# Altium integrated library Microchip Power Management Line Regulator.IntLib: 1174 symbols (part 15 of 31)
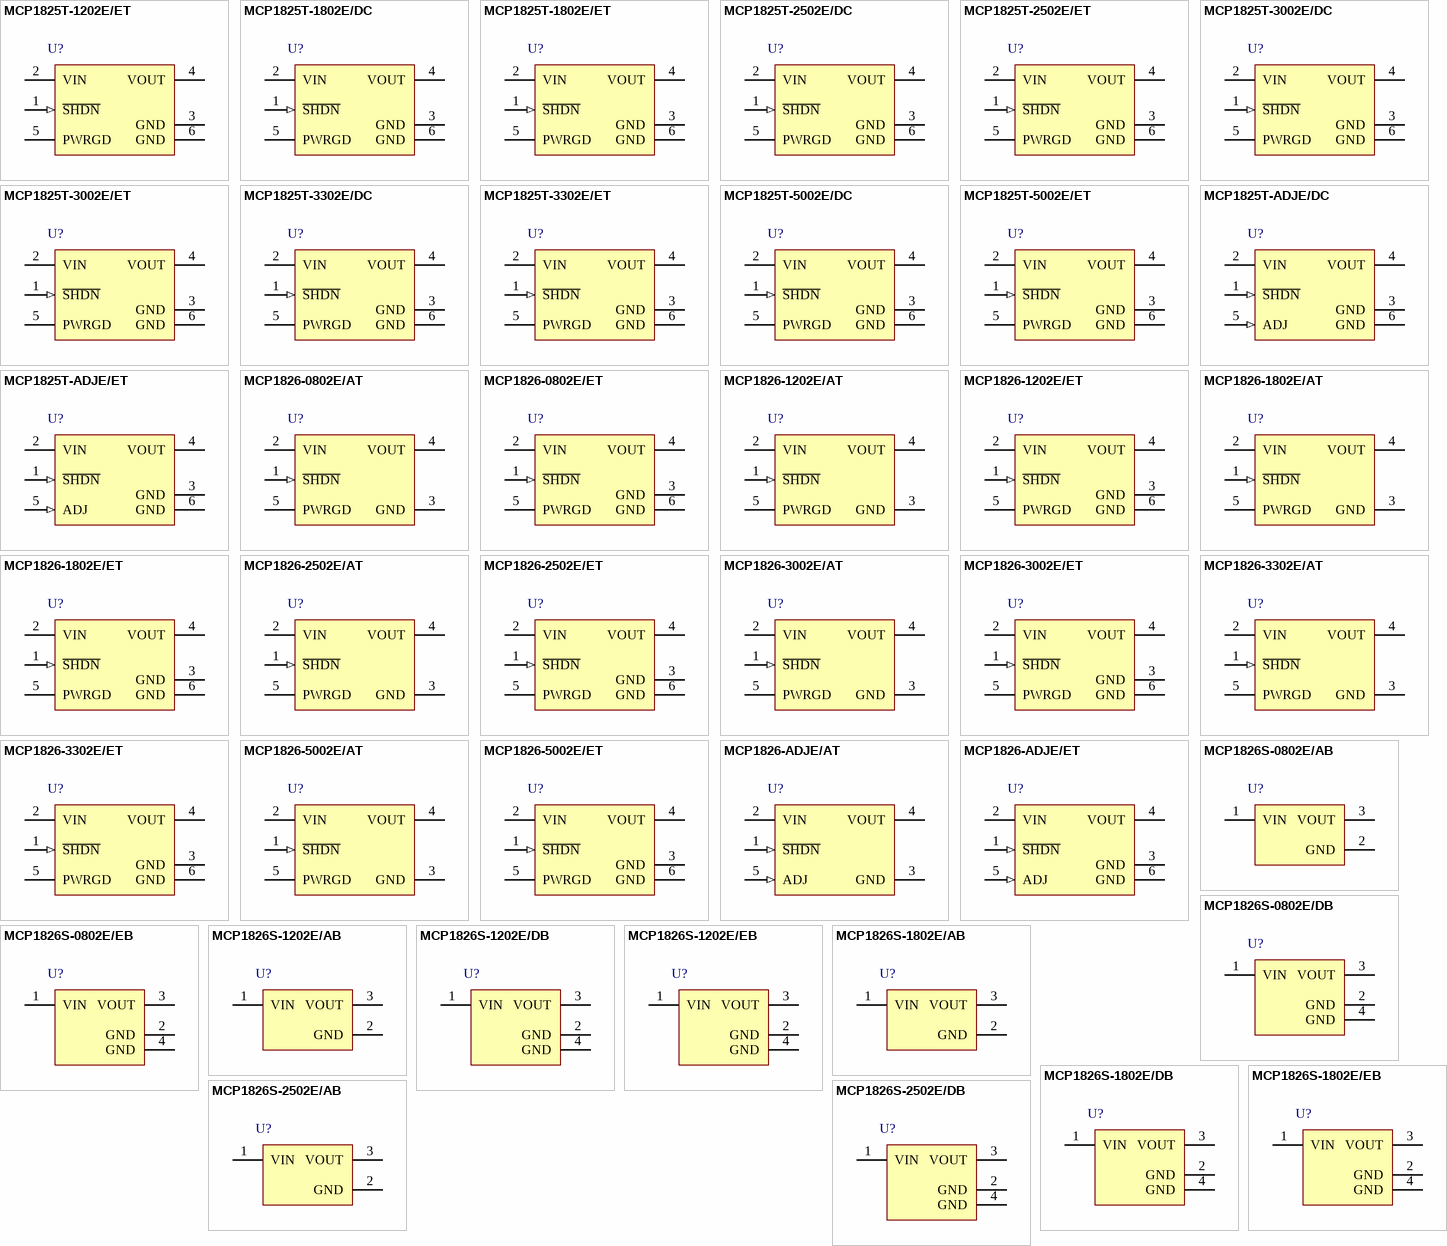
[diagram p44: symbols MCP1825T-1202E/ET to MCP1826S-2502E/DB]

## MCP1826-0802E/ET
designator U?
1000 mA, Low Voltage, Low Quiescent Current LDO Regulator, 5-Pin DDPAK, Extended Temperature; Manufacturer: Microchip; PartNumber: MCP1826-0802E/ET; DatasheetVersion: revA, Aug-2007; PackageVersion: revBB, Aug-2009; PackageReference: DDPAK-ET5; PackageDescription: 5-Lead Plastic (ET) [DDPAK]; Supplier 1: Digi-Key; Supplier Part Number 1: MCP1826-0802E/ET-ND; Supplier 2: Mouser; Supplier Part Number 2: 579-MCP1826-0802E/ET; Mounting Technology: Surface Mount; ComponentLink1Description: Manufacturer URL; ComponentLink1URL: http://www.microchip.com/; ComponentLink2Description: Datasheet; ComponentLink2URL: http://ww1.microchip.com/downloads/en/DeviceDoc/22057a.pdf; ComponentLink3Description: Package Specification; ComponentLink3URL: http://www.microchip.com/stellent/groups/techpub_sg/documents/packagingspec/en012702.pdf
footprint DDPAK-ET5_N (D2-PAK, 6-Leads, Body 9x10.2mm, Pitch 1.7mm, Lead Span 14.9mm, IPC Medium Density)
footprint DDPAK-ET5_L (D2-PAK, 6-Leads, Body 9x10.2mm, Pitch 1.7mm, Lead Span 14.9mm, IPC High Density)
footprint DDPAK-ET5_M (D2-PAK, 6-Leads, Body 9x10.2mm, Pitch 1.7mm, Lead Span 14.9mm, IPC Low Density)
pins: 1 ~{SHDN} (in), 2 VIN (power), 3 GND (power), 4 VOUT (power), 5 PWRGD (power), 6 GND (power)

## MCP1826-1202E/AT
designator U?
1000 mA, Low Voltage, Low Quiescent Current LDO Regulator, 5-Pin TO-220, Extended Temperature; Manufacturer: Microchip; PartNumber: MCP1826-1202E/AT; DatasheetVersion: revA, Aug-2007; PackageVersion: revBB, Aug-2009; PackageReference: TO-220-AT5; PackageDescription: 5-Lead Plastic Transistor Outline (AT) [TO-220]; Supplier 1: Digi-Key; Supplier Part Number 1: MCP1826-1202E/AT-ND; Supplier 2: Farnell; Supplier Part Number 2: 1851992; Supplier 3: Newark; Supplier Part Number 3: 27M0003; Supplier 4: Mouser; Supplier Part Number 4: 579-MCP1826-1202E/AT; Mounting Technology: Through Hole; ComponentLink1Description: Manufacturer URL; ComponentLink1URL: http://www.microchip.com/; ComponentLink2Description: Datasheet; ComponentLink2URL: http://ww1.microchip.com/downloads/en/DeviceDoc/22057a.pdf; ComponentLink3Description: Package Specification; ComponentLink3URL: http://www.microchip.com/stellent/groups/techpub_sg/documents/packagingspec/en012702.pdf
footprint TO-220-AT5 (TO, Thru-Hole, Vertical, Heatsink Mounted; 5 In-Line Leads; Pitch 1.70 mm)
pins: 1 ~{SHDN} (in), 2 VIN (power), 3 GND (power), 4 VOUT (power), 5 PWRGD (power)

## MCP1826-1202E/ET
designator U?
1000 mA, Low Voltage, Low Quiescent Current LDO Regulator, 5-Pin DDPAK, Extended Temperature; Manufacturer: Microchip; PartNumber: MCP1826-1202E/ET; DatasheetVersion: revA, Aug-2007; PackageVersion: revBB, Aug-2009; PackageReference: DDPAK-ET5; PackageDescription: 5-Lead Plastic (ET) [DDPAK]; Supplier 1: Digi-Key; Supplier Part Number 1: MCP1826-1202E/ET-ND; Supplier 2: Mouser; Supplier Part Number 2: 579-MCP1826-1202E/ET; Mounting Technology: Surface Mount; ComponentLink1Description: Manufacturer URL; ComponentLink1URL: http://www.microchip.com/; ComponentLink2Description: Datasheet; ComponentLink2URL: http://ww1.microchip.com/downloads/en/DeviceDoc/22057a.pdf; ComponentLink3Description: Package Specification; ComponentLink3URL: http://www.microchip.com/stellent/groups/techpub_sg/documents/packagingspec/en012702.pdf
footprint DDPAK-ET5_N (D2-PAK, 6-Leads, Body 9x10.2mm, Pitch 1.7mm, Lead Span 14.9mm, IPC Medium Density)
footprint DDPAK-ET5_L (D2-PAK, 6-Leads, Body 9x10.2mm, Pitch 1.7mm, Lead Span 14.9mm, IPC High Density)
footprint DDPAK-ET5_M (D2-PAK, 6-Leads, Body 9x10.2mm, Pitch 1.7mm, Lead Span 14.9mm, IPC Low Density)
pins: 1 ~{SHDN} (in), 2 VIN (power), 3 GND (power), 4 VOUT (power), 5 PWRGD (power), 6 GND (power)

## MCP1826-1802E/AT
designator U?
1000 mA, Low Voltage, Low Quiescent Current LDO Regulator, 5-Pin TO-220, Extended Temperature; Manufacturer: Microchip; PartNumber: MCP1826-1802E/AT; DatasheetVersion: revA, Aug-2007; PackageVersion: revBB, Aug-2009; PackageReference: TO-220-AT5; PackageDescription: 5-Lead Plastic Transistor Outline (AT) [TO-220]; Supplier 1: Digi-Key; Supplier Part Number 1: MCP1826-1802E/AT-ND; Supplier 2: Farnell; Supplier Part Number 2: 1578412; Supplier 3: Mouser; Supplier Part Number 3: 579-MCP1826-1802E/AT; Mounting Technology: Through Hole; ComponentLink1Description: Manufacturer URL; ComponentLink1URL: http://www.microchip.com/; ComponentLink2Description: Datasheet; ComponentLink2URL: http://ww1.microchip.com/downloads/en/DeviceDoc/22057a.pdf; ComponentLink3Description: Package Specification; ComponentLink3URL: http://www.microchip.com/stellent/groups/techpub_sg/documents/packagingspec/en012702.pdf
footprint TO-220-AT5 (TO, Thru-Hole, Vertical, Heatsink Mounted; 5 In-Line Leads; Pitch 1.70 mm)
pins: 1 ~{SHDN} (in), 2 VIN (power), 3 GND (power), 4 VOUT (power), 5 PWRGD (power)

## MCP1826-1802E/ET
designator U?
1000 mA, Low Voltage, Low Quiescent Current LDO Regulator, 5-Pin DDPAK, Extended Temperature; Manufacturer: Microchip; PartNumber: MCP1826-1802E/ET; DatasheetVersion: revA, Aug-2007; PackageVersion: revBB, Aug-2009; PackageReference: DDPAK-ET5; PackageDescription: 5-Lead Plastic (ET) [DDPAK]; Supplier 1: Digi-Key; Supplier Part Number 1: MCP1826-1802E/ET-ND; Supplier 2: Newark; Supplier Part Number 2: 27M0008; Supplier 3: Mouser; Supplier Part Number 3: 579-MCP1826-1802E/ET; Mounting Technology: Surface Mount; ComponentLink1Description: Manufacturer URL; ComponentLink1URL: http://www.microchip.com/; ComponentLink2Description: Datasheet; ComponentLink2URL: http://ww1.microchip.com/downloads/en/DeviceDoc/22057a.pdf; ComponentLink3Description: Package Specification; ComponentLink3URL: http://www.microchip.com/stellent/groups/techpub_sg/documents/packagingspec/en012702.pdf
footprint DDPAK-ET5_N (D2-PAK, 6-Leads, Body 9x10.2mm, Pitch 1.7mm, Lead Span 14.9mm, IPC Medium Density)
footprint DDPAK-ET5_L (D2-PAK, 6-Leads, Body 9x10.2mm, Pitch 1.7mm, Lead Span 14.9mm, IPC High Density)
footprint DDPAK-ET5_M (D2-PAK, 6-Leads, Body 9x10.2mm, Pitch 1.7mm, Lead Span 14.9mm, IPC Low Density)
pins: 1 ~{SHDN} (in), 2 VIN (power), 3 GND (power), 4 VOUT (power), 5 PWRGD (power), 6 GND (power)

## MCP1826-2502E/AT
designator U?
1000 mA, Low Voltage, Low Quiescent Current LDO Regulator, 5-Pin TO-220, Extended Temperature; Manufacturer: Microchip; PartNumber: MCP1826-2502E/AT; DatasheetVersion: revA, Aug-2007; PackageVersion: revBB, Aug-2009; PackageReference: TO-220-AT5; PackageDescription: 5-Lead Plastic Transistor Outline (AT) [TO-220]; Supplier 1: Digi-Key; Supplier Part Number 1: MCP1826-2502E/AT-ND; Supplier 2: Farnell; Supplier Part Number 2: 1851993; Supplier 3: Newark; Supplier Part Number 3: 27M0009; Supplier 4: Mouser; Supplier Part Number 4: 579-MCP1826-2502E/AT; Mounting Technology: Through Hole; ComponentLink1Description: Manufacturer URL; ComponentLink1URL: http://www.microchip.com/; ComponentLink2Description: Datasheet; ComponentLink2URL: http://ww1.microchip.com/downloads/en/DeviceDoc/22057a.pdf; ComponentLink3Description: Package Specification; ComponentLink3URL: http://www.microchip.com/stellent/groups/techpub_sg/documents/packagingspec/en012702.pdf
footprint TO-220-AT5 (TO, Thru-Hole, Vertical, Heatsink Mounted; 5 In-Line Leads; Pitch 1.70 mm)
pins: 1 ~{SHDN} (in), 2 VIN (power), 3 GND (power), 4 VOUT (power), 5 PWRGD (power)

## MCP1826-2502E/ET
designator U?
1000 mA, Low Voltage, Low Quiescent Current LDO Regulator, 5-Pin DDPAK, Extended Temperature; Manufacturer: Microchip; PartNumber: MCP1826-2502E/ET; DatasheetVersion: revA, Aug-2007; PackageVersion: revBB, Aug-2009; PackageReference: DDPAK-ET5; PackageDescription: 5-Lead Plastic (ET) [DDPAK]; Supplier 1: Digi-Key; Supplier Part Number 1: MCP1826-2502E/ET-ND; Supplier 2: Mouser; Supplier Part Number 2: 579-MCP1826-2502E/ET; Mounting Technology: Surface Mount; ComponentLink1Description: Manufacturer URL; ComponentLink1URL: http://www.microchip.com/; ComponentLink2Description: Datasheet; ComponentLink2URL: http://ww1.microchip.com/downloads/en/DeviceDoc/22057a.pdf; ComponentLink3Description: Package Specification; ComponentLink3URL: http://www.microchip.com/stellent/groups/techpub_sg/documents/packagingspec/en012702.pdf
footprint DDPAK-ET5_N (D2-PAK, 6-Leads, Body 9x10.2mm, Pitch 1.7mm, Lead Span 14.9mm, IPC Medium Density)
footprint DDPAK-ET5_L (D2-PAK, 6-Leads, Body 9x10.2mm, Pitch 1.7mm, Lead Span 14.9mm, IPC High Density)
footprint DDPAK-ET5_M (D2-PAK, 6-Leads, Body 9x10.2mm, Pitch 1.7mm, Lead Span 14.9mm, IPC Low Density)
pins: 1 ~{SHDN} (in), 2 VIN (power), 3 GND (power), 4 VOUT (power), 5 PWRGD (power), 6 GND (power)

## MCP1826-3002E/AT
designator U?
1000 mA, Low Voltage, Low Quiescent Current LDO Regulator, 5-Pin TO-220, Extended Temperature; Manufacturer: Microchip; PartNumber: MCP1826-3002E/AT; DatasheetVersion: revA, Aug-2007; PackageVersion: revBB, Aug-2009; PackageReference: TO-220-AT5; PackageDescription: 5-Lead Plastic Transistor Outline (AT) [TO-220]; Supplier 1: Digi-Key; Supplier Part Number 1: MCP1826-3002E/AT-ND; Supplier 2: Mouser; Supplier Part Number 2: 579-MCP1826-3002E/AT; Mounting Technology: Through Hole; ComponentLink1Description: Manufacturer URL; ComponentLink1URL: http://www.microchip.com/; ComponentLink2Description: Datasheet; ComponentLink2URL: http://ww1.microchip.com/downloads/en/DeviceDoc/22057a.pdf; ComponentLink3Description: Package Specification; ComponentLink3URL: http://www.microchip.com/stellent/groups/techpub_sg/documents/packagingspec/en012702.pdf
footprint TO-220-AT5 (TO, Thru-Hole, Vertical, Heatsink Mounted; 5 In-Line Leads; Pitch 1.70 mm)
pins: 1 ~{SHDN} (in), 2 VIN (power), 3 GND (power), 4 VOUT (power), 5 PWRGD (power)

## MCP1826-3002E/ET
designator U?
1000 mA, Low Voltage, Low Quiescent Current LDO Regulator, 5-Pin DDPAK, Extended Temperature; Manufacturer: Microchip; PartNumber: MCP1826-3002E/ET; DatasheetVersion: revA, Aug-2007; PackageVersion: revBB, Aug-2009; PackageReference: DDPAK-ET5; PackageDescription: 5-Lead Plastic (ET) [DDPAK]; Supplier 1: Digi-Key; Supplier Part Number 1: MCP1826-3002E/ET-ND; Supplier 2: Mouser; Supplier Part Number 2: 579-MCP1826-3002E/ET; Mounting Technology: Surface Mount; ComponentLink1Description: Manufacturer URL; ComponentLink1URL: http://www.microchip.com/; ComponentLink2Description: Datasheet; ComponentLink2URL: http://ww1.microchip.com/downloads/en/DeviceDoc/22057a.pdf; ComponentLink3Description: Package Specification; ComponentLink3URL: http://www.microchip.com/stellent/groups/techpub_sg/documents/packagingspec/en012702.pdf
footprint DDPAK-ET5_N (D2-PAK, 6-Leads, Body 9x10.2mm, Pitch 1.7mm, Lead Span 14.9mm, IPC Medium Density)
footprint DDPAK-ET5_L (D2-PAK, 6-Leads, Body 9x10.2mm, Pitch 1.7mm, Lead Span 14.9mm, IPC High Density)
footprint DDPAK-ET5_M (D2-PAK, 6-Leads, Body 9x10.2mm, Pitch 1.7mm, Lead Span 14.9mm, IPC Low Density)
pins: 1 ~{SHDN} (in), 2 VIN (power), 3 GND (power), 4 VOUT (power), 5 PWRGD (power), 6 GND (power)

## MCP1826-3302E/AT
designator U?
1000 mA, Low Voltage, Low Quiescent Current LDO Regulator, 5-Pin TO-220, Extended Temperature; Manufacturer: Microchip; PartNumber: MCP1826-3302E/AT; DatasheetVersion: revA, Aug-2007; PackageVersion: revBB, Aug-2009; PackageReference: TO-220-AT5; PackageDescription: 5-Lead Plastic Transistor Outline (AT) [TO-220]; Supplier 1: Digi-Key; Supplier Part Number 1: MCP1826-3302E/AT-ND; Supplier 2: Farnell; Supplier Part Number 2: 1578413; Supplier 3: Newark; Supplier Part Number 3: 08N6486; Supplier 4: Mouser; Supplier Part Number 4: 579-MCP1826-3302E/AT; Mounting Technology: Through Hole; ComponentLink1Description: Manufacturer URL; ComponentLink1URL: http://www.microchip.com/; ComponentLink2Description: Datasheet; ComponentLink2URL: http://ww1.microchip.com/downloads/en/DeviceDoc/22057a.pdf; ComponentLink3Description: Package Specification; ComponentLink3URL: http://www.microchip.com/stellent/groups/techpub_sg/documents/packagingspec/en012702.pdf
footprint TO-220-AT5 (TO, Thru-Hole, Vertical, Heatsink Mounted; 5 In-Line Leads; Pitch 1.70 mm)
pins: 1 ~{SHDN} (in), 2 VIN (power), 3 GND (power), 4 VOUT (power), 5 PWRGD (power)

## MCP1826-3302E/ET
designator U?
1000 mA, Low Voltage, Low Quiescent Current LDO Regulator, 5-Pin DDPAK, Extended Temperature; Manufacturer: Microchip; PartNumber: MCP1826-3302E/ET; DatasheetVersion: revA, Aug-2007; PackageVersion: revBB, Aug-2009; PackageReference: DDPAK-ET5; PackageDescription: 5-Lead Plastic (ET) [DDPAK]; Supplier 1: Digi-Key; Supplier Part Number 1: MCP1826-3302E/ET-ND; Supplier 2: Newark; Supplier Part Number 2: 27M0017; Supplier 3: Mouser; Supplier Part Number 3: 579-MCP1826-3302E/ET; Mounting Technology: Surface Mount; ComponentLink1Description: Manufacturer URL; ComponentLink1URL: http://www.microchip.com/; ComponentLink2Description: Datasheet; ComponentLink2URL: http://ww1.microchip.com/downloads/en/DeviceDoc/22057a.pdf; ComponentLink3Description: Package Specification; ComponentLink3URL: http://www.microchip.com/stellent/groups/techpub_sg/documents/packagingspec/en012702.pdf
footprint DDPAK-ET5_N (D2-PAK, 6-Leads, Body 9x10.2mm, Pitch 1.7mm, Lead Span 14.9mm, IPC Medium Density)
footprint DDPAK-ET5_L (D2-PAK, 6-Leads, Body 9x10.2mm, Pitch 1.7mm, Lead Span 14.9mm, IPC High Density)
footprint DDPAK-ET5_M (D2-PAK, 6-Leads, Body 9x10.2mm, Pitch 1.7mm, Lead Span 14.9mm, IPC Low Density)
pins: 1 ~{SHDN} (in), 2 VIN (power), 3 GND (power), 4 VOUT (power), 5 PWRGD (power), 6 GND (power)

## MCP1826-5002E/AT
designator U?
1000 mA, Low Voltage, Low Quiescent Current LDO Regulator, 5-Pin TO-220, Extended Temperature; Manufacturer: Microchip; PartNumber: MCP1826-5002E/AT; DatasheetVersion: revA, Aug-2007; PackageVersion: revBB, Aug-2009; PackageReference: TO-220-AT5; PackageDescription: 5-Lead Plastic Transistor Outline (AT) [TO-220]; Supplier 1: Digi-Key; Supplier Part Number 1: MCP1826-5002E/AT-ND; Supplier 2: Farnell; Supplier Part Number 2: 1578414; Supplier 3: Mouser; Supplier Part Number 3: 579-MCP1826-5002E/AT; Mounting Technology: Through Hole; ComponentLink1Description: Manufacturer URL; ComponentLink1URL: http://www.microchip.com/; ComponentLink2Description: Datasheet; ComponentLink2URL: http://ww1.microchip.com/downloads/en/DeviceDoc/22057a.pdf; ComponentLink3Description: Package Specification; ComponentLink3URL: http://www.microchip.com/stellent/groups/techpub_sg/documents/packagingspec/en012702.pdf
footprint TO-220-AT5 (TO, Thru-Hole, Vertical, Heatsink Mounted; 5 In-Line Leads; Pitch 1.70 mm)
pins: 1 ~{SHDN} (in), 2 VIN (power), 3 GND (power), 4 VOUT (power), 5 PWRGD (power)

## MCP1826-5002E/ET
designator U?
1000 mA, Low Voltage, Low Quiescent Current LDO Regulator, 5-Pin DDPAK, Extended Temperature; Manufacturer: Microchip; PartNumber: MCP1826-5002E/ET; DatasheetVersion: revA, Aug-2007; PackageVersion: revBB, Aug-2009; PackageReference: DDPAK-ET5; PackageDescription: 5-Lead Plastic (ET) [DDPAK]; Supplier 1: Digi-Key; Supplier Part Number 1: MCP1826-5002E/ET-ND; Supplier 2: Mouser; Supplier Part Number 2: 579-MCP1826-5002E/ET; Mounting Technology: Surface Mount; ComponentLink1Description: Manufacturer URL; ComponentLink1URL: http://www.microchip.com/; ComponentLink2Description: Datasheet; ComponentLink2URL: http://ww1.microchip.com/downloads/en/DeviceDoc/22057a.pdf; ComponentLink3Description: Package Specification; ComponentLink3URL: http://www.microchip.com/stellent/groups/techpub_sg/documents/packagingspec/en012702.pdf
footprint DDPAK-ET5_N (D2-PAK, 6-Leads, Body 9x10.2mm, Pitch 1.7mm, Lead Span 14.9mm, IPC Medium Density)
footprint DDPAK-ET5_L (D2-PAK, 6-Leads, Body 9x10.2mm, Pitch 1.7mm, Lead Span 14.9mm, IPC High Density)
footprint DDPAK-ET5_M (D2-PAK, 6-Leads, Body 9x10.2mm, Pitch 1.7mm, Lead Span 14.9mm, IPC Low Density)
pins: 1 ~{SHDN} (in), 2 VIN (power), 3 GND (power), 4 VOUT (power), 5 PWRGD (power), 6 GND (power)

## MCP1826-ADJE/AT
designator U?
1000 mA, Low Voltage, Low Quiescent Current LDO Regulator, 5-Pin TO-220, Extended Temperature; Manufacturer: Microchip; PartNumber: MCP1826-ADJE/AT; DatasheetVersion: revA, Aug-2007; PackageVersion: revBB, Aug-2009; PackageReference: TO-220-AT5; PackageDescription: 5-Lead Plastic Transistor Outline (AT) [TO-220]; Supplier 1: Digi-Key; Supplier Part Number 1: MCP1826-ADJE/AT-ND; Supplier 2: Farnell; Supplier Part Number 2: 1578415; Supplier 3: Mouser; Supplier Part Number 3: 579-MCP1826-ADJE/AT; Mounting Technology: Through Hole; ComponentLink1Description: Manufacturer URL; ComponentLink1URL: http://www.microchip.com/; ComponentLink2Description: Datasheet; ComponentLink2URL: http://ww1.microchip.com/downloads/en/DeviceDoc/22057a.pdf; ComponentLink3Description: Package Specification; ComponentLink3URL: http://www.microchip.com/stellent/groups/techpub_sg/documents/packagingspec/en012702.pdf
footprint TO-220-AT5 (TO, Thru-Hole, Vertical, Heatsink Mounted; 5 In-Line Leads; Pitch 1.70 mm)
pins: 1 ~{SHDN} (in), 2 VIN (power), 3 GND (power), 4 VOUT (power), 5 ADJ (in)

## MCP1826-ADJE/ET
designator U?
1000 mA, Low Voltage, Low Quiescent Current LDO Regulator, 5-Pin DDPAK, Extended Temperature; Manufacturer: Microchip; PartNumber: MCP1826-ADJE/ET; DatasheetVersion: revA, Aug-2007; PackageVersion: revBB, Aug-2009; PackageReference: DDPAK-ET5; PackageDescription: 5-Lead Plastic (ET) [DDPAK]; Supplier 1: Digi-Key; Supplier Part Number 1: MCP1826-ADJE/ET-ND; Supplier 2: Newark; Supplier Part Number 2: 26M9998; Supplier 3: Mouser; Supplier Part Number 3: 579-MCP1826-ADJE/ET; Mounting Technology: Surface Mount; ComponentLink1Description: Manufacturer URL; ComponentLink1URL: http://www.microchip.com/; ComponentLink2Description: Datasheet; ComponentLink2URL: http://ww1.microchip.com/downloads/en/DeviceDoc/22057a.pdf; ComponentLink3Description: Package Specification; ComponentLink3URL: http://www.microchip.com/stellent/groups/techpub_sg/documents/packagingspec/en012702.pdf
footprint DDPAK-ET5_N (D2-PAK, 6-Leads, Body 9x10.2mm, Pitch 1.7mm, Lead Span 14.9mm, IPC Medium Density)
footprint DDPAK-ET5_L (D2-PAK, 6-Leads, Body 9x10.2mm, Pitch 1.7mm, Lead Span 14.9mm, IPC High Density)
footprint DDPAK-ET5_M (D2-PAK, 6-Leads, Body 9x10.2mm, Pitch 1.7mm, Lead Span 14.9mm, IPC Low Density)
pins: 1 ~{SHDN} (in), 2 VIN (power), 3 GND (power), 4 VOUT (power), 5 ADJ (in), 6 GND (power)

## MCP1826S-0802E/AB
designator U?
1000 mA, Low Voltage, Low Quiescent Current LDO Regulator, 3-Pin TO-220, Extended Temperature; Manufacturer: Microchip; PartNumber: MCP1826S-0802E/AB; DatasheetVersion: revA, Aug-2007; PackageVersion: revBB, Aug-2009; PackageReference: TO-220-AB3; PackageDescription: 3-Lead Plastic Transistor Outline (AB) [TO-220]; Supplier 1: Digi-Key; Supplier Part Number 1: MCP1826S-0802E/AB-ND; Supplier 2: Mouser; Supplier Part Number 2: 579-MCP1826S-0802EAB; Mounting Technology: Through Hole; ComponentLink1Description: Manufacturer URL; ComponentLink1URL: http://www.microchip.com/; ComponentLink2Description: Datasheet; ComponentLink2URL: http://ww1.microchip.com/downloads/en/DeviceDoc/22057a.pdf; ComponentLink3Description: Package Specification; ComponentLink3URL: http://www.microchip.com/stellent/groups/techpub_sg/documents/packagingspec/en012702.pdf
footprint TO-220-AB3 (TO, Thru-Hole, Vertical, Heatsink Mounted; 3 In-Line Leads; Pitch 2.54 mm)
pins: 1 VIN (power), 2 GND (power), 3 VOUT (power)

## MCP1826S-0802E/DB
designator U?
1000 mA, Low Voltage, Low Quiescent Current LDO Regulator, 3-Pin SOT-223, Extended Temperature; Manufacturer: Microchip; PartNumber: MCP1826S-0802E/DB; DatasheetVersion: revA, Aug-2007; PackageVersion: revBB, Aug-2009; PackageReference: SOT-223-DB3; PackageDescription: 3-Lead Plastic Small Outline Transistor (DB) [SOT-223]; Supplier 1: Digi-Key; Supplier Part Number 1: MCP1826S-0802E/DB-ND; Supplier 2: Mouser; Supplier Part Number 2: 579-MCP1826S-0802EDB; Mounting Technology: Surface Mount; ComponentLink1Description: Manufacturer URL; ComponentLink1URL: http://www.microchip.com/; ComponentLink2Description: Datasheet; ComponentLink2URL: http://ww1.microchip.com/downloads/en/DeviceDoc/22057a.pdf; ComponentLink3Description: Package Specification; ComponentLink3URL: http://www.microchip.com/stellent/groups/techpub_sg/documents/packagingspec/en012702.pdf
footprint SOT-223-DB3_N (SOT223, 4-Leads, Body 6.5x3.5mm, Pitch 2.3mm, Lead Span 7mm, IPC Medium Density)
footprint SOT-223-DB3_L (SOT223, 4-Leads, Body 6.5x3.5mm, Pitch 2.3mm, Lead Span 7mm, IPC High Density)
footprint SOT-223-DB3_M (SOT223, 4-Leads, Body 6.5x3.5mm, Pitch 2.3mm, Lead Span 7mm, IPC Low Density)
pins: 1 VIN (power), 2 GND (power), 3 VOUT (power), 4 GND (power)

## MCP1826S-0802E/EB
designator U?
1000 mA, Low Voltage, Low Quiescent Current LDO Regulator, 3-Pin DDPAK, Extended Temperature; Manufacturer: Microchip; PartNumber: MCP1826S-0802E/EB; DatasheetVersion: revA, Aug-2007; PackageVersion: revBB, Aug-2009; PackageReference: DDPAK-EB3; PackageDescription: 3-Lead Plastic (EB) [DDPAK]; Supplier 1: Digi-Key; Supplier Part Number 1: MCP1826S-0802E/EB-ND; Supplier 2: Mouser; Supplier Part Number 2: 579-MCP1826S-0802EEB; Mounting Technology: Surface Mount; ComponentLink1Description: Manufacturer URL; ComponentLink1URL: http://www.microchip.com/; ComponentLink2Description: Datasheet; ComponentLink2URL: http://ww1.microchip.com/downloads/en/DeviceDoc/22057a.pdf; ComponentLink3Description: Package Specification; ComponentLink3URL: http://www.microchip.com/stellent/groups/techpub_sg/documents/packagingspec/en012702.pdf
footprint DDPAK-EB3_N (D2-PAK, 4-Leads, Body 9x10.2mm, Pitch 2.54mm, Lead Span 14.9mm, IPC Medium Density)
footprint DDPAK-EB3_L (D2-PAK, 4-Leads, Body 9x10.2mm, Pitch 2.54mm, Lead Span 14.9mm, IPC High Density)
footprint DDPAK-EB3_M (D2-PAK, 4-Leads, Body 9x10.2mm, Pitch 2.54mm, Lead Span 14.9mm, IPC Low Density)
pins: 1 VIN (power), 2 GND (power), 3 VOUT (power), 4 GND (power)

## MCP1826S-1202E/AB
designator U?
1000 mA, Low Voltage, Low Quiescent Current LDO Regulator, 3-Pin TO-220, Extended Temperature; Manufacturer: Microchip; PartNumber: MCP1826S-1202E/AB; DatasheetVersion: revA, Aug-2007; PackageVersion: revBB, Aug-2009; PackageReference: TO-220-AB3; PackageDescription: 3-Lead Plastic Transistor Outline (AB) [TO-220]; Supplier 1: Digi-Key; Supplier Part Number 1: MCP1826S-1202E/AB-ND; Supplier 2: Farnell; Supplier Part Number 2: 1851994; Supplier 3: Newark; Supplier Part Number 3: 27M0024; Supplier 4: Mouser; Supplier Part Number 4: 579-MCP1826S-1202EAB; Mounting Technology: Through Hole; ComponentLink1Description: Manufacturer URL; ComponentLink1URL: http://www.microchip.com/; ComponentLink2Description: Datasheet; ComponentLink2URL: http://ww1.microchip.com/downloads/en/DeviceDoc/22057a.pdf; ComponentLink3Description: Package Specification; ComponentLink3URL: http://www.microchip.com/stellent/groups/techpub_sg/documents/packagingspec/en012702.pdf
footprint TO-220-AB3 (TO, Thru-Hole, Vertical, Heatsink Mounted; 3 In-Line Leads; Pitch 2.54 mm)
pins: 1 VIN (power), 2 GND (power), 3 VOUT (power)

## MCP1826S-1202E/DB
designator U?
1000 mA, Low Voltage, Low Quiescent Current LDO Regulator, 3-Pin SOT-223, Extended Temperature; Manufacturer: Microchip; PartNumber: MCP1826S-1202E/DB; DatasheetVersion: revA, Aug-2007; PackageVersion: revBB, Aug-2009; PackageReference: SOT-223-DB3; PackageDescription: 3-Lead Plastic Small Outline Transistor (DB) [SOT-223]; Supplier 1: Digi-Key; Supplier Part Number 1: MCP1826S-1202E/DB-ND; Supplier 2: Farnell; Supplier Part Number 2: 1851995; Supplier 3: Newark; Supplier Part Number 3: 27M0025; Supplier 4: Mouser; Supplier Part Number 4: 579-MCP1826S-1202EDB; Mounting Technology: Surface Mount; ComponentLink1Description: Manufacturer URL; ComponentLink1URL: http://www.microchip.com/; ComponentLink2Description: Datasheet; ComponentLink2URL: http://ww1.microchip.com/downloads/en/DeviceDoc/22057a.pdf; ComponentLink3Description: Package Specification; ComponentLink3URL: http://www.microchip.com/stellent/groups/techpub_sg/documents/packagingspec/en012702.pdf
footprint SOT-223-DB3_N (SOT223, 4-Leads, Body 6.5x3.5mm, Pitch 2.3mm, Lead Span 7mm, IPC Medium Density)
footprint SOT-223-DB3_L (SOT223, 4-Leads, Body 6.5x3.5mm, Pitch 2.3mm, Lead Span 7mm, IPC High Density)
footprint SOT-223-DB3_M (SOT223, 4-Leads, Body 6.5x3.5mm, Pitch 2.3mm, Lead Span 7mm, IPC Low Density)
pins: 1 VIN (power), 2 GND (power), 3 VOUT (power), 4 GND (power)

## MCP1826S-1202E/EB
designator U?
1000 mA, Low Voltage, Low Quiescent Current LDO Regulator, 3-Pin DDPAK, Extended Temperature; Manufacturer: Microchip; PartNumber: MCP1826S-1202E/EB; DatasheetVersion: revA, Aug-2007; PackageVersion: revBB, Aug-2009; PackageReference: DDPAK-EB3; PackageDescription: 3-Lead Plastic (EB) [DDPAK]; Supplier 1: Digi-Key; Supplier Part Number 1: MCP1826S-1202E/EB-ND; Supplier 2: Newark; Supplier Part Number 2: 27M0026; Supplier 3: Mouser; Supplier Part Number 3: 579-MCP1826S-1202EEB; Mounting Technology: Surface Mount; ComponentLink1Description: Manufacturer URL; ComponentLink1URL: http://www.microchip.com/; ComponentLink2Description: Datasheet; ComponentLink2URL: http://ww1.microchip.com/downloads/en/DeviceDoc/22057a.pdf; ComponentLink3Description: Package Specification; ComponentLink3URL: http://www.microchip.com/stellent/groups/techpub_sg/documents/packagingspec/en012702.pdf
footprint DDPAK-EB3_N (D2-PAK, 4-Leads, Body 9x10.2mm, Pitch 2.54mm, Lead Span 14.9mm, IPC Medium Density)
footprint DDPAK-EB3_L (D2-PAK, 4-Leads, Body 9x10.2mm, Pitch 2.54mm, Lead Span 14.9mm, IPC High Density)
footprint DDPAK-EB3_M (D2-PAK, 4-Leads, Body 9x10.2mm, Pitch 2.54mm, Lead Span 14.9mm, IPC Low Density)
pins: 1 VIN (power), 2 GND (power), 3 VOUT (power), 4 GND (power)

## MCP1826S-1802E/AB
designator U?
1000 mA, Low Voltage, Low Quiescent Current LDO Regulator, 3-Pin TO-220, Extended Temperature; Manufacturer: Microchip; PartNumber: MCP1826S-1802E/AB; DatasheetVersion: revA, Aug-2007; PackageVersion: revBB, Aug-2009; PackageReference: TO-220-AB3; PackageDescription: 3-Lead Plastic Transistor Outline (AB) [TO-220]; Supplier 1: Digi-Key; Supplier Part Number 1: MCP1826S-1802E/AB-ND; Supplier 2: Newark; Supplier Part Number 2: 27M0027; Supplier 3: Mouser; Supplier Part Number 3: 579-MCP1826S-1802EAB; Mounting Technology: Through Hole; ComponentLink1Description: Manufacturer URL; ComponentLink1URL: http://www.microchip.com/; ComponentLink2Description: Datasheet; ComponentLink2URL: http://ww1.microchip.com/downloads/en/DeviceDoc/22057a.pdf; ComponentLink3Description: Package Specification; ComponentLink3URL: http://www.microchip.com/stellent/groups/techpub_sg/documents/packagingspec/en012702.pdf
footprint TO-220-AB3 (TO, Thru-Hole, Vertical, Heatsink Mounted; 3 In-Line Leads; Pitch 2.54 mm)
pins: 1 VIN (power), 2 GND (power), 3 VOUT (power)

## MCP1826S-1802E/DB
designator U?
1000 mA, Low Voltage, Low Quiescent Current LDO Regulator, 3-Pin SOT-223, Extended Temperature; Manufacturer: Microchip; PartNumber: MCP1826S-1802E/DB; DatasheetVersion: revA, Aug-2007; PackageVersion: revBB, Aug-2009; PackageReference: SOT-223-DB3; PackageDescription: 3-Lead Plastic Small Outline Transistor (DB) [SOT-223]; Supplier 1: Digi-Key; Supplier Part Number 1: MCP1826S-1802E/DB-ND; Supplier 2: Farnell; Supplier Part Number 2: 1578419; Supplier 3: Newark; Supplier Part Number 3: 27M0028; Supplier 4: Mouser; Supplier Part Number 4: 579-MCP1826S-1802EDB; Mounting Technology: Surface Mount; ComponentLink1Description: Manufacturer URL; ComponentLink1URL: http://www.microchip.com/; ComponentLink2Description: Datasheet; ComponentLink2URL: http://ww1.microchip.com/downloads/en/DeviceDoc/22057a.pdf; ComponentLink3Description: Package Specification; ComponentLink3URL: http://www.microchip.com/stellent/groups/techpub_sg/documents/packagingspec/en012702.pdf
footprint SOT-223-DB3_N (SOT223, 4-Leads, Body 6.5x3.5mm, Pitch 2.3mm, Lead Span 7mm, IPC Medium Density)
footprint SOT-223-DB3_L (SOT223, 4-Leads, Body 6.5x3.5mm, Pitch 2.3mm, Lead Span 7mm, IPC High Density)
footprint SOT-223-DB3_M (SOT223, 4-Leads, Body 6.5x3.5mm, Pitch 2.3mm, Lead Span 7mm, IPC Low Density)
pins: 1 VIN (power), 2 GND (power), 3 VOUT (power), 4 GND (power)

## MCP1826S-1802E/EB
designator U?
1000 mA, Low Voltage, Low Quiescent Current LDO Regulator, 3-Pin DDPAK, Extended Temperature; Manufacturer: Microchip; PartNumber: MCP1826S-1802E/EB; DatasheetVersion: revA, Aug-2007; PackageVersion: revBB, Aug-2009; PackageReference: DDPAK-EB3; PackageDescription: 3-Lead Plastic (EB) [DDPAK]; Supplier 1: Digi-Key; Supplier Part Number 1: MCP1826S-1802E/EB-ND; Supplier 2: Newark; Supplier Part Number 2: 27M0029; Supplier 3: Mouser; Supplier Part Number 3: 579-MCP1826S-1802EEB; Mounting Technology: Surface Mount; ComponentLink1Description: Manufacturer URL; ComponentLink1URL: http://www.microchip.com/; ComponentLink2Description: Datasheet; ComponentLink2URL: http://ww1.microchip.com/downloads/en/DeviceDoc/22057a.pdf; ComponentLink3Description: Package Specification; ComponentLink3URL: http://www.microchip.com/stellent/groups/techpub_sg/documents/packagingspec/en012702.pdf
footprint DDPAK-EB3_N (D2-PAK, 4-Leads, Body 9x10.2mm, Pitch 2.54mm, Lead Span 14.9mm, IPC Medium Density)
footprint DDPAK-EB3_L (D2-PAK, 4-Leads, Body 9x10.2mm, Pitch 2.54mm, Lead Span 14.9mm, IPC High Density)
footprint DDPAK-EB3_M (D2-PAK, 4-Leads, Body 9x10.2mm, Pitch 2.54mm, Lead Span 14.9mm, IPC Low Density)
pins: 1 VIN (power), 2 GND (power), 3 VOUT (power), 4 GND (power)

## MCP1826S-2502E/AB
designator U?
1000 mA, Low Voltage, Low Quiescent Current LDO Regulator, 3-Pin TO-220, Extended Temperature; Manufacturer: Microchip; PartNumber: MCP1826S-2502E/AB; DatasheetVersion: revA, Aug-2007; PackageVersion: revBB, Aug-2009; PackageReference: TO-220-AB3; PackageDescription: 3-Lead Plastic Transistor Outline (AB) [TO-220]; Supplier 1: Digi-Key; Supplier Part Number 1: MCP1826S-2502E/AB-ND; Supplier 2: Farnell; Supplier Part Number 2: 1851996; Supplier 3: Newark; Supplier Part Number 3: 27M0030; Supplier 4: Mouser; Supplier Part Number 4: 579-MCP1826S-2502EAB; Mounting Technology: Through Hole; ComponentLink1Description: Manufacturer URL; ComponentLink1URL: http://www.microchip.com/; ComponentLink2Description: Datasheet; ComponentLink2URL: http://ww1.microchip.com/downloads/en/DeviceDoc/22057a.pdf; ComponentLink3Description: Package Specification; ComponentLink3URL: http://www.microchip.com/stellent/groups/techpub_sg/documents/packagingspec/en012702.pdf
footprint TO-220-AB3 (TO, Thru-Hole, Vertical, Heatsink Mounted; 3 In-Line Leads; Pitch 2.54 mm)
pins: 1 VIN (power), 2 GND (power), 3 VOUT (power)

## MCP1826S-2502E/DB
designator U?
1000 mA, Low Voltage, Low Quiescent Current LDO Regulator, 3-Pin SOT-223, Extended Temperature; Manufacturer: Microchip; PartNumber: MCP1826S-2502E/DB; DatasheetVersion: revA, Aug-2007; PackageVersion: revBB, Aug-2009; PackageReference: SOT-223-DB3; PackageDescription: 3-Lead Plastic Small Outline Transistor (DB) [SOT-223]; Supplier 1: Digi-Key; Supplier Part Number 1: MCP1826S-2502E/DB-ND; Supplier 2: Newark; Supplier Part Number 2: 27M0031; Supplier 3: Mouser; Supplier Part Number 3: 579-MCP1826S-2502EDB; Mounting Technology: Surface Mount; ComponentLink1Description: Manufacturer URL; ComponentLink1URL: http://www.microchip.com/; ComponentLink2Description: Datasheet; ComponentLink2URL: http://ww1.microchip.com/downloads/en/DeviceDoc/22057a.pdf; ComponentLink3Description: Package Specification; ComponentLink3URL: http://www.microchip.com/stellent/groups/techpub_sg/documents/packagingspec/en012702.pdf
footprint SOT-223-DB3_N (SOT223, 4-Leads, Body 6.5x3.5mm, Pitch 2.3mm, Lead Span 7mm, IPC Medium Density)
footprint SOT-223-DB3_L (SOT223, 4-Leads, Body 6.5x3.5mm, Pitch 2.3mm, Lead Span 7mm, IPC High Density)
footprint SOT-223-DB3_M (SOT223, 4-Leads, Body 6.5x3.5mm, Pitch 2.3mm, Lead Span 7mm, IPC Low Density)
pins: 1 VIN (power), 2 GND (power), 3 VOUT (power), 4 GND (power)

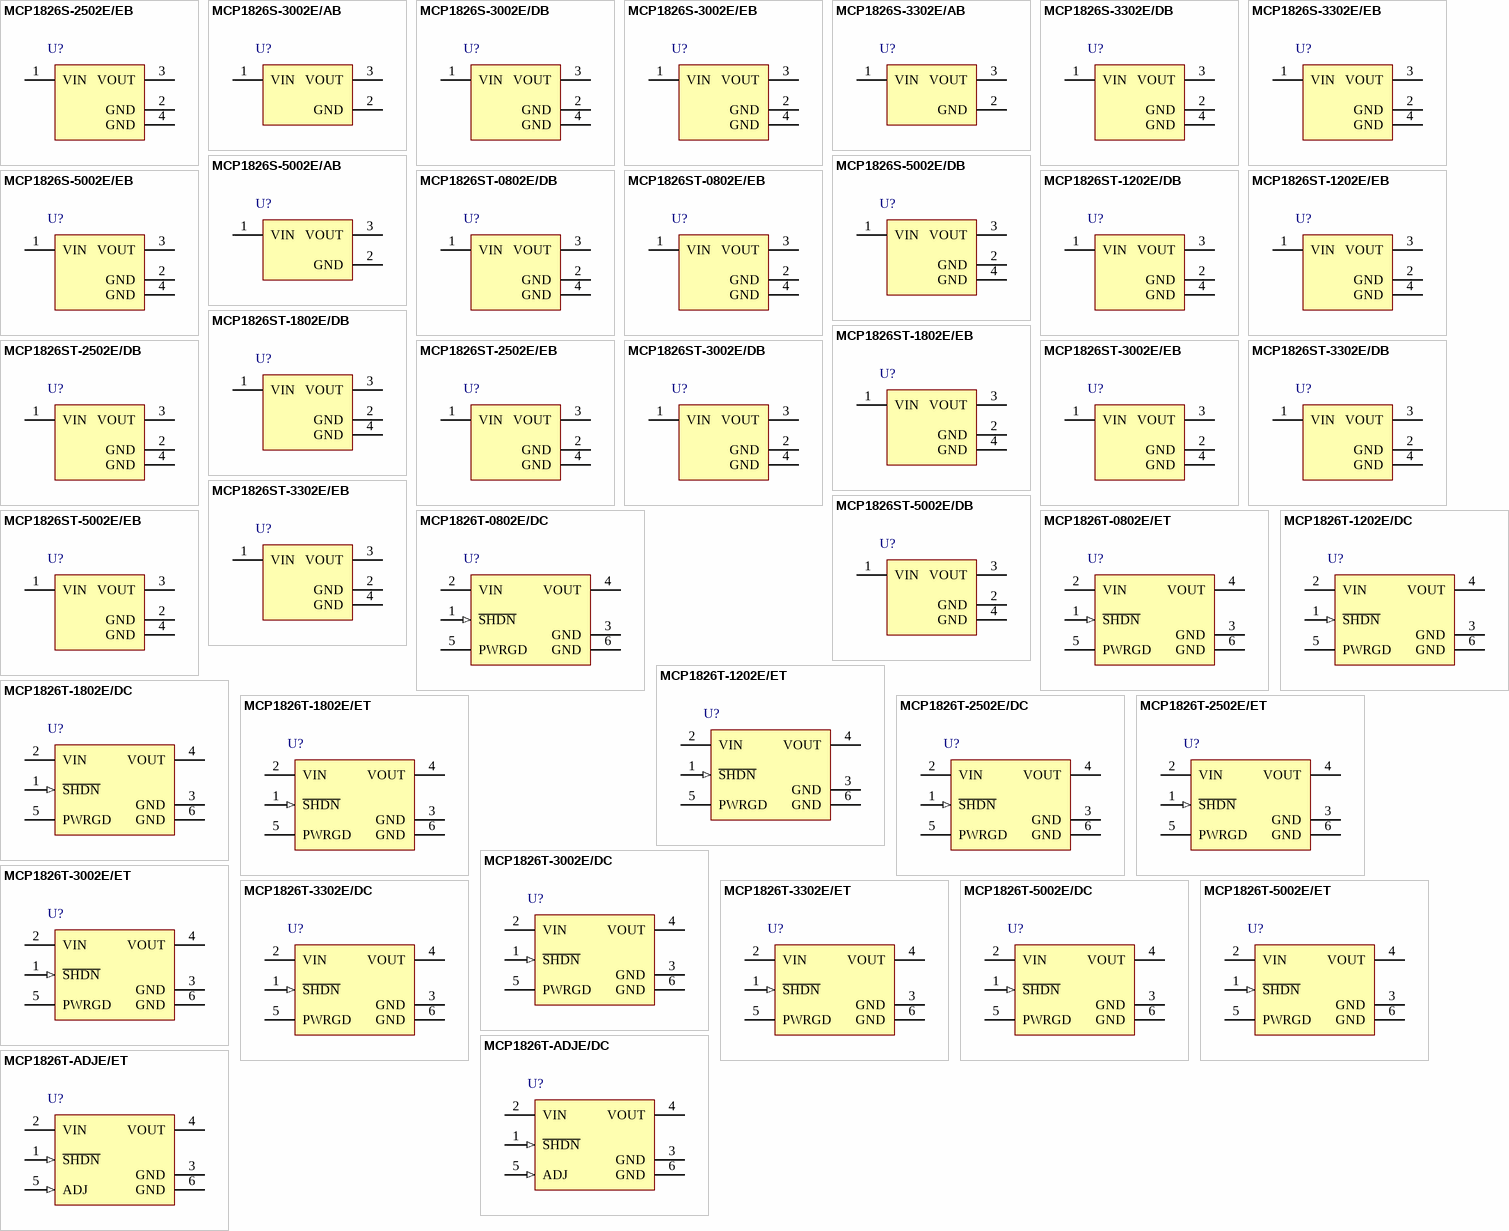
[diagram p14: symbols MCP1826S-2502E/EB to MCP1826T-ADJE/ET]

## MCP1826S-2502E/EB
designator U?
1000 mA, Low Voltage, Low Quiescent Current LDO Regulator, 3-Pin DDPAK, Extended Temperature; Manufacturer: Microchip; PartNumber: MCP1826S-2502E/EB; DatasheetVersion: revA, Aug-2007; PackageVersion: revBB, Aug-2009; PackageReference: DDPAK-EB3; PackageDescription: 3-Lead Plastic (EB) [DDPAK]; Supplier 1: Digi-Key; Supplier Part Number 1: MCP1826S-2502E/EB-ND; Supplier 2: Mouser; Supplier Part Number 2: 579-MCP1826S-2502EEB; Mounting Technology: Surface Mount; ComponentLink1Description: Manufacturer URL; ComponentLink1URL: http://www.microchip.com/; ComponentLink2Description: Datasheet; ComponentLink2URL: http://ww1.microchip.com/downloads/en/DeviceDoc/22057a.pdf; ComponentLink3Description: Package Specification; ComponentLink3URL: http://www.microchip.com/stellent/groups/techpub_sg/documents/packagingspec/en012702.pdf
footprint DDPAK-EB3_N (D2-PAK, 4-Leads, Body 9x10.2mm, Pitch 2.54mm, Lead Span 14.9mm, IPC Medium Density)
footprint DDPAK-EB3_L (D2-PAK, 4-Leads, Body 9x10.2mm, Pitch 2.54mm, Lead Span 14.9mm, IPC High Density)
footprint DDPAK-EB3_M (D2-PAK, 4-Leads, Body 9x10.2mm, Pitch 2.54mm, Lead Span 14.9mm, IPC Low Density)
pins: 1 VIN (power), 2 GND (power), 3 VOUT (power), 4 GND (power)

## MCP1826S-3002E/AB
designator U?
1000 mA, Low Voltage, Low Quiescent Current LDO Regulator, 3-Pin TO-220, Extended Temperature; Manufacturer: Microchip; PartNumber: MCP1826S-3002E/AB; DatasheetVersion: revA, Aug-2007; PackageVersion: revBB, Aug-2009; PackageReference: TO-220-AB3; PackageDescription: 3-Lead Plastic Transistor Outline (AB) [TO-220]; Supplier 1: Digi-Key; Supplier Part Number 1: MCP1826S-3002E/AB-ND; Supplier 2: Newark; Supplier Part Number 2: 08N6490; Supplier 3: Mouser; Supplier Part Number 3: 579-MCP1826S-3002EAB; Mounting Technology: Through Hole; ComponentLink1Description: Manufacturer URL; ComponentLink1URL: http://www.microchip.com/; ComponentLink2Description: Datasheet; ComponentLink2URL: http://ww1.microchip.com/downloads/en/DeviceDoc/22057a.pdf; ComponentLink3Description: Package Specification; ComponentLink3URL: http://www.microchip.com/stellent/groups/techpub_sg/documents/packagingspec/en012702.pdf
footprint TO-220-AB3 (TO, Thru-Hole, Vertical, Heatsink Mounted; 3 In-Line Leads; Pitch 2.54 mm)
pins: 1 VIN (power), 2 GND (power), 3 VOUT (power)

## MCP1826S-3002E/DB
designator U?
1000 mA, Low Voltage, Low Quiescent Current LDO Regulator, 3-Pin SOT-223, Extended Temperature; Manufacturer: Microchip; PartNumber: MCP1826S-3002E/DB; DatasheetVersion: revA, Aug-2007; PackageVersion: revBB, Aug-2009; PackageReference: SOT-223-DB3; PackageDescription: 3-Lead Plastic Small Outline Transistor (DB) [SOT-223]; Supplier 1: Digi-Key; Supplier Part Number 1: MCP1826S-3002E/DB-ND; Supplier 2: Newark; Supplier Part Number 2: 27M0034; Supplier 3: Mouser; Supplier Part Number 3: 579-MCP1826S-3002EDB; Mounting Technology: Surface Mount; ComponentLink1Description: Manufacturer URL; ComponentLink1URL: http://www.microchip.com/; ComponentLink2Description: Datasheet; ComponentLink2URL: http://ww1.microchip.com/downloads/en/DeviceDoc/22057a.pdf; ComponentLink3Description: Package Specification; ComponentLink3URL: http://www.microchip.com/stellent/groups/techpub_sg/documents/packagingspec/en012702.pdf
footprint SOT-223-DB3_N (SOT223, 4-Leads, Body 6.5x3.5mm, Pitch 2.3mm, Lead Span 7mm, IPC Medium Density)
footprint SOT-223-DB3_L (SOT223, 4-Leads, Body 6.5x3.5mm, Pitch 2.3mm, Lead Span 7mm, IPC High Density)
footprint SOT-223-DB3_M (SOT223, 4-Leads, Body 6.5x3.5mm, Pitch 2.3mm, Lead Span 7mm, IPC Low Density)
pins: 1 VIN (power), 2 GND (power), 3 VOUT (power), 4 GND (power)

## MCP1826S-3002E/EB
designator U?
1000 mA, Low Voltage, Low Quiescent Current LDO Regulator, 3-Pin DDPAK, Extended Temperature; Manufacturer: Microchip; PartNumber: MCP1826S-3002E/EB; DatasheetVersion: revA, Aug-2007; PackageVersion: revBB, Aug-2009; PackageReference: DDPAK-EB3; PackageDescription: 3-Lead Plastic (EB) [DDPAK]; Supplier 1: Digi-Key; Supplier Part Number 1: MCP1826S-3002E/EB-ND; Supplier 2: Mouser; Supplier Part Number 2: 579-MCP1826S-3002EEB; Mounting Technology: Surface Mount; ComponentLink1Description: Manufacturer URL; ComponentLink1URL: http://www.microchip.com/; ComponentLink2Description: Datasheet; ComponentLink2URL: http://ww1.microchip.com/downloads/en/DeviceDoc/22057a.pdf; ComponentLink3Description: Package Specification; ComponentLink3URL: http://www.microchip.com/stellent/groups/techpub_sg/documents/packagingspec/en012702.pdf
footprint DDPAK-EB3_N (D2-PAK, 4-Leads, Body 9x10.2mm, Pitch 2.54mm, Lead Span 14.9mm, IPC Medium Density)
footprint DDPAK-EB3_L (D2-PAK, 4-Leads, Body 9x10.2mm, Pitch 2.54mm, Lead Span 14.9mm, IPC High Density)
footprint DDPAK-EB3_M (D2-PAK, 4-Leads, Body 9x10.2mm, Pitch 2.54mm, Lead Span 14.9mm, IPC Low Density)
pins: 1 VIN (power), 2 GND (power), 3 VOUT (power), 4 GND (power)

## MCP1826S-3302E/AB
designator U?
1000 mA, Low Voltage, Low Quiescent Current LDO Regulator, 3-Pin TO-220, Extended Temperature; Manufacturer: Microchip; PartNumber: MCP1826S-3302E/AB; DatasheetVersion: revA, Aug-2007; PackageVersion: revBB, Aug-2009; PackageReference: TO-220-AB3; PackageDescription: 3-Lead Plastic Transistor Outline (AB) [TO-220]; Supplier 1: Digi-Key; Supplier Part Number 1: MCP1826S-3302E/AB-ND; Supplier 2: Newark; Supplier Part Number 2: 08N6492; Supplier 3: Newark; Supplier Part Number 3: 27M0036; Supplier 4: Mouser; Supplier Part Number 4: 579-MCP1826S-3302EAB; Mounting Technology: Through Hole; ComponentLink1Description: Manufacturer URL; ComponentLink1URL: http://www.microchip.com/; ComponentLink2Description: Datasheet; ComponentLink2URL: http://ww1.microchip.com/downloads/en/DeviceDoc/22057a.pdf; ComponentLink3Description: Package Specification; ComponentLink3URL: http://www.microchip.com/stellent/groups/techpub_sg/documents/packagingspec/en012702.pdf
footprint TO-220-AB3 (TO, Thru-Hole, Vertical, Heatsink Mounted; 3 In-Line Leads; Pitch 2.54 mm)
pins: 1 VIN (power), 2 GND (power), 3 VOUT (power)

## MCP1826S-3302E/DB
designator U?
1000 mA, Low Voltage, Low Quiescent Current LDO Regulator, 3-Pin SOT-223, Extended Temperature; Manufacturer: Microchip; PartNumber: MCP1826S-3302E/DB; DatasheetVersion: revA, Aug-2007; PackageVersion: revBB, Aug-2009; PackageReference: SOT-223-DB3; PackageDescription: 3-Lead Plastic Small Outline Transistor (DB) [SOT-223]; Supplier 1: Digi-Key; Supplier Part Number 1: MCP1826S-3302E/DB-ND; Supplier 2: Newark; Supplier Part Number 2: 27M0037; Supplier 3: Mouser; Supplier Part Number 3: 579-MCP1826S-3302EDB; Mounting Technology: Surface Mount; ComponentLink1Description: Manufacturer URL; ComponentLink1URL: http://www.microchip.com/; ComponentLink2Description: Datasheet; ComponentLink2URL: http://ww1.microchip.com/downloads/en/DeviceDoc/22057a.pdf; ComponentLink3Description: Package Specification; ComponentLink3URL: http://www.microchip.com/stellent/groups/techpub_sg/documents/packagingspec/en012702.pdf
footprint SOT-223-DB3_N (SOT223, 4-Leads, Body 6.5x3.5mm, Pitch 2.3mm, Lead Span 7mm, IPC Medium Density)
footprint SOT-223-DB3_L (SOT223, 4-Leads, Body 6.5x3.5mm, Pitch 2.3mm, Lead Span 7mm, IPC High Density)
footprint SOT-223-DB3_M (SOT223, 4-Leads, Body 6.5x3.5mm, Pitch 2.3mm, Lead Span 7mm, IPC Low Density)
pins: 1 VIN (power), 2 GND (power), 3 VOUT (power), 4 GND (power)

## MCP1826S-3302E/EB
designator U?
1000 mA, Low Voltage, Low Quiescent Current LDO Regulator, 3-Pin DDPAK, Extended Temperature; Manufacturer: Microchip; PartNumber: MCP1826S-3302E/EB; DatasheetVersion: revA, Aug-2007; PackageVersion: revBB, Aug-2009; PackageReference: DDPAK-EB3; PackageDescription: 3-Lead Plastic (EB) [DDPAK]; Supplier 1: Digi-Key; Supplier Part Number 1: MCP1826S-3302E/EB-ND; Supplier 2: Newark; Supplier Part Number 2: 27M0038; Supplier 3: Mouser; Supplier Part Number 3: 579-MCP1826S-3302EEB; Mounting Technology: Surface Mount; ComponentLink1Description: Manufacturer URL; ComponentLink1URL: http://www.microchip.com/; ComponentLink2Description: Datasheet; ComponentLink2URL: http://ww1.microchip.com/downloads/en/DeviceDoc/22057a.pdf; ComponentLink3Description: Package Specification; ComponentLink3URL: http://www.microchip.com/stellent/groups/techpub_sg/documents/packagingspec/en012702.pdf
footprint DDPAK-EB3_N (D2-PAK, 4-Leads, Body 9x10.2mm, Pitch 2.54mm, Lead Span 14.9mm, IPC Medium Density)
footprint DDPAK-EB3_L (D2-PAK, 4-Leads, Body 9x10.2mm, Pitch 2.54mm, Lead Span 14.9mm, IPC High Density)
footprint DDPAK-EB3_M (D2-PAK, 4-Leads, Body 9x10.2mm, Pitch 2.54mm, Lead Span 14.9mm, IPC Low Density)
pins: 1 VIN (power), 2 GND (power), 3 VOUT (power), 4 GND (power)

## MCP1826S-5002E/AB
designator U?
1000 mA, Low Voltage, Low Quiescent Current LDO Regulator, 3-Pin TO-220, Extended Temperature; Manufacturer: Microchip; PartNumber: MCP1826S-5002E/AB; DatasheetVersion: revA, Aug-2007; PackageVersion: revBB, Aug-2009; PackageReference: TO-220-AB3; PackageDescription: 3-Lead Plastic Transistor Outline (AB) [TO-220]; Supplier 1: Digi-Key; Supplier Part Number 1: MCP1826S-5002E/AB-ND; Supplier 2: Newark; Supplier Part Number 2: 08N6494; Supplier 3: Mouser; Supplier Part Number 3: 579-MCP1826S-5002EAB; Mounting Technology: Through Hole; ComponentLink1Description: Manufacturer URL; ComponentLink1URL: http://www.microchip.com/; ComponentLink2Description: Datasheet; ComponentLink2URL: http://ww1.microchip.com/downloads/en/DeviceDoc/22057a.pdf; ComponentLink3Description: Package Specification; ComponentLink3URL: http://www.microchip.com/stellent/groups/techpub_sg/documents/packagingspec/en012702.pdf
footprint TO-220-AB3 (TO, Thru-Hole, Vertical, Heatsink Mounted; 3 In-Line Leads; Pitch 2.54 mm)
pins: 1 VIN (power), 2 GND (power), 3 VOUT (power)

## MCP1826S-5002E/DB
designator U?
1000 mA, Low Voltage, Low Quiescent Current LDO Regulator, 3-Pin SOT-223, Extended Temperature; Manufacturer: Microchip; PartNumber: MCP1826S-5002E/DB; DatasheetVersion: revA, Aug-2007; PackageVersion: revBB, Aug-2009; PackageReference: SOT-223-DB3; PackageDescription: 3-Lead Plastic Small Outline Transistor (DB) [SOT-223]; Supplier 1: Digi-Key; Supplier Part Number 1: MCP1826S-5002E/DB-ND; Supplier 2: Newark; Supplier Part Number 2: 27M0040; Supplier 3: Mouser; Supplier Part Number 3: 579-MCP1826S-5002EDB; Mounting Technology: Surface Mount; ComponentLink1Description: Manufacturer URL; ComponentLink1URL: http://www.microchip.com/; ComponentLink2Description: Datasheet; ComponentLink2URL: http://ww1.microchip.com/downloads/en/DeviceDoc/22057a.pdf; ComponentLink3Description: Package Specification; ComponentLink3URL: http://www.microchip.com/stellent/groups/techpub_sg/documents/packagingspec/en012702.pdf
footprint SOT-223-DB3_N (SOT223, 4-Leads, Body 6.5x3.5mm, Pitch 2.3mm, Lead Span 7mm, IPC Medium Density)
footprint SOT-223-DB3_L (SOT223, 4-Leads, Body 6.5x3.5mm, Pitch 2.3mm, Lead Span 7mm, IPC High Density)
footprint SOT-223-DB3_M (SOT223, 4-Leads, Body 6.5x3.5mm, Pitch 2.3mm, Lead Span 7mm, IPC Low Density)
pins: 1 VIN (power), 2 GND (power), 3 VOUT (power), 4 GND (power)

## MCP1826S-5002E/EB
designator U?
1000 mA, Low Voltage, Low Quiescent Current LDO Regulator, 3-Pin DDPAK, Extended Temperature; Manufacturer: Microchip; PartNumber: MCP1826S-5002E/EB; DatasheetVersion: revA, Aug-2007; PackageVersion: revBB, Aug-2009; PackageReference: DDPAK-EB3; PackageDescription: 3-Lead Plastic (EB) [DDPAK]; Supplier 1: Digi-Key; Supplier Part Number 1: MCP1826S-5002E/EB-ND; Supplier 2: Mouser; Supplier Part Number 2: 579-MCP1826S-5002EEB; Mounting Technology: Surface Mount; ComponentLink1Description: Manufacturer URL; ComponentLink1URL: http://www.microchip.com/; ComponentLink2Description: Datasheet; ComponentLink2URL: http://ww1.microchip.com/downloads/en/DeviceDoc/22057a.pdf; ComponentLink3Description: Package Specification; ComponentLink3URL: http://www.microchip.com/stellent/groups/techpub_sg/documents/packagingspec/en012702.pdf
footprint DDPAK-EB3_N (D2-PAK, 4-Leads, Body 9x10.2mm, Pitch 2.54mm, Lead Span 14.9mm, IPC Medium Density)
footprint DDPAK-EB3_L (D2-PAK, 4-Leads, Body 9x10.2mm, Pitch 2.54mm, Lead Span 14.9mm, IPC High Density)
footprint DDPAK-EB3_M (D2-PAK, 4-Leads, Body 9x10.2mm, Pitch 2.54mm, Lead Span 14.9mm, IPC Low Density)
pins: 1 VIN (power), 2 GND (power), 3 VOUT (power), 4 GND (power)

## MCP1826ST-0802E/DB
designator U?
1000 mA, Low Voltage, Low Quiescent Current LDO Regulator, 3-Pin SOT-223, Extended Temperature, Tape and Reel; Manufacturer: Microchip; PartNumber: MCP1826ST-0802E/DB; DatasheetVersion: revA, Aug-2007; PackageVersion: revBB, Aug-2009; PackageReference: SOT-223-DB3; PackageDescription: 3-Lead Plastic Small Outline Transistor (DB) [SOT-223]; Supplier 1: Digi-Key; Supplier Part Number 1: MCP1826ST-0802E/DBTR-ND; Supplier 2: Mouser; Supplier Part Number 2: 579-MCP1826ST0802EDB; Mounting Technology: Surface Mount; ComponentLink1Description: Manufacturer URL; ComponentLink1URL: http://www.microchip.com/; ComponentLink2Description: Datasheet; ComponentLink2URL: http://ww1.microchip.com/downloads/en/DeviceDoc/22057a.pdf; ComponentLink3Description: Package Specification; ComponentLink3URL: http://www.microchip.com/stellent/groups/techpub_sg/documents/packagingspec/en012702.pdf
footprint SOT-223-DB3_N (SOT223, 4-Leads, Body 6.5x3.5mm, Pitch 2.3mm, Lead Span 7mm, IPC Medium Density)
footprint SOT-223-DB3_L (SOT223, 4-Leads, Body 6.5x3.5mm, Pitch 2.3mm, Lead Span 7mm, IPC High Density)
footprint SOT-223-DB3_M (SOT223, 4-Leads, Body 6.5x3.5mm, Pitch 2.3mm, Lead Span 7mm, IPC Low Density)
pins: 1 VIN (power), 2 GND (power), 3 VOUT (power), 4 GND (power)

## MCP1826ST-0802E/EB
designator U?
1000 mA, Low Voltage, Low Quiescent Current LDO Regulator, 3-Pin DDPAK, Extended Temperature, Tape and Reel; Manufacturer: Microchip; PartNumber: MCP1826ST-0802E/EB; DatasheetVersion: revA, Aug-2007; PackageVersion: revBB, Aug-2009; PackageReference: DDPAK-EB3; PackageDescription: 3-Lead Plastic (EB) [DDPAK]; Supplier 1: Digi-Key; Supplier Part Number 1: MCP1826ST-0802E/EBTR-ND; Supplier 2: Mouser; Supplier Part Number 2: 579-MCP1826ST0802EEB; Mounting Technology: Surface Mount; ComponentLink1Description: Manufacturer URL; ComponentLink1URL: http://www.microchip.com/; ComponentLink2Description: Datasheet; ComponentLink2URL: http://ww1.microchip.com/downloads/en/DeviceDoc/22057a.pdf; ComponentLink3Description: Package Specification; ComponentLink3URL: http://www.microchip.com/stellent/groups/techpub_sg/documents/packagingspec/en012702.pdf
footprint DDPAK-EB3_N (D2-PAK, 4-Leads, Body 9x10.2mm, Pitch 2.54mm, Lead Span 14.9mm, IPC Medium Density)
footprint DDPAK-EB3_L (D2-PAK, 4-Leads, Body 9x10.2mm, Pitch 2.54mm, Lead Span 14.9mm, IPC High Density)
footprint DDPAK-EB3_M (D2-PAK, 4-Leads, Body 9x10.2mm, Pitch 2.54mm, Lead Span 14.9mm, IPC Low Density)
pins: 1 VIN (power), 2 GND (power), 3 VOUT (power), 4 GND (power)

## MCP1826ST-1202E/DB
designator U?
1000 mA, Low Voltage, Low Quiescent Current LDO Regulator, 3-Pin SOT-223, Extended Temperature, Tape and Reel; Manufacturer: Microchip; PartNumber: MCP1826ST-1202E/DB; DatasheetVersion: revA, Aug-2007; PackageVersion: revBB, Aug-2009; PackageReference: SOT-223-DB3; PackageDescription: 3-Lead Plastic Small Outline Transistor (DB) [SOT-223]; Supplier 1: Digi-Key; Supplier Part Number 1: MCP1826ST-1202E/DBTR-ND; Supplier 2: Mouser; Supplier Part Number 2: 579-MCP1826ST1202EDB; Mounting Technology: Surface Mount; ComponentLink1Description: Manufacturer URL; ComponentLink1URL: http://www.microchip.com/; ComponentLink2Description: Datasheet; ComponentLink2URL: http://ww1.microchip.com/downloads/en/DeviceDoc/22057a.pdf; ComponentLink3Description: Package Specification; ComponentLink3URL: http://www.microchip.com/stellent/groups/techpub_sg/documents/packagingspec/en012702.pdf
footprint SOT-223-DB3_N (SOT223, 4-Leads, Body 6.5x3.5mm, Pitch 2.3mm, Lead Span 7mm, IPC Medium Density)
footprint SOT-223-DB3_L (SOT223, 4-Leads, Body 6.5x3.5mm, Pitch 2.3mm, Lead Span 7mm, IPC High Density)
footprint SOT-223-DB3_M (SOT223, 4-Leads, Body 6.5x3.5mm, Pitch 2.3mm, Lead Span 7mm, IPC Low Density)
pins: 1 VIN (power), 2 GND (power), 3 VOUT (power), 4 GND (power)

## MCP1826ST-1202E/EB
designator U?
1000 mA, Low Voltage, Low Quiescent Current LDO Regulator, 3-Pin DDPAK, Extended Temperature, Tape and Reel; Manufacturer: Microchip; PartNumber: MCP1826ST-1202E/EB; DatasheetVersion: revA, Aug-2007; PackageVersion: revBB, Aug-2009; PackageReference: DDPAK-EB3; PackageDescription: 3-Lead Plastic (EB) [DDPAK]; Supplier 1: Digi-Key; Supplier Part Number 1: MCP1826ST-1202E/EBTR-ND; Supplier 2: Mouser; Supplier Part Number 2: 579-MCP1826ST1202EEB; Mounting Technology: Surface Mount; ComponentLink1Description: Manufacturer URL; ComponentLink1URL: http://www.microchip.com/; ComponentLink2Description: Datasheet; ComponentLink2URL: http://ww1.microchip.com/downloads/en/DeviceDoc/22057a.pdf; ComponentLink3Description: Package Specification; ComponentLink3URL: http://www.microchip.com/stellent/groups/techpub_sg/documents/packagingspec/en012702.pdf
footprint DDPAK-EB3_N (D2-PAK, 4-Leads, Body 9x10.2mm, Pitch 2.54mm, Lead Span 14.9mm, IPC Medium Density)
footprint DDPAK-EB3_L (D2-PAK, 4-Leads, Body 9x10.2mm, Pitch 2.54mm, Lead Span 14.9mm, IPC High Density)
footprint DDPAK-EB3_M (D2-PAK, 4-Leads, Body 9x10.2mm, Pitch 2.54mm, Lead Span 14.9mm, IPC Low Density)
pins: 1 VIN (power), 2 GND (power), 3 VOUT (power), 4 GND (power)